# Altium footprint library ControlBoard.PcbLib: 18 footprints (part 2 of 2)
Each footprint in its own frame and in the unit in brackets; x right, y up, seen from the top. Pads: shape width x height; smd on the part's side, far side on the other; paste and mask are expansions set on the pad; w line width, h text height; cw(c..) or ccw(c..) is an arc to the next point about the centre after c.
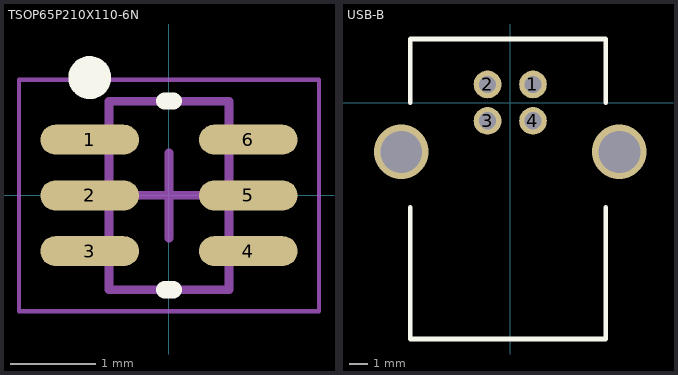
[diagram p1: the footprints below, top view; thin cyan lines are the x and y axes]

## TSOP65P210X110-6N [mm] "TSOP, 6-Leads, Body 2.00x1.25mm, Pitch 0.65mm, IPC Medium Density"
height 1.1
pads (6):
  oval 1.15x0.35 smd: 1(-0.925,0.65) 2(-0.925,0) 3(-0.925,-0.65) 4(0.925,-0.65) 5(0.925,0) 6(0.925,0.65)
Top Overlay:
  circle w0.25: c-0.925,1.375 r0.125
  lines w0.2: -0.05,-1.1 0.05,-1.1 ; -0.05,1.1 0.05,1.1
Mechanical 13:
  lines w0.1: -0.7,-1.1 -0.7,1.1 0.7,1.1 0.7,-1.1 -0.7,-1.1
Mechanical 15:
  lines w0.05: -1.75,-1.35 -1.75,1.35 1.75,1.35 1.75,-1.35 -1.75,-1.35
  lines w0.1: -0.5,0 0.5,0 ; 0,-0.5 0,0.5
3D body: height 1.1, standoff 0.1, extent -0.7,-1.1 0.7,1.1

## USB-B [mm] "2411 02"
pads (4):
  round 1.524 hole 0.95: 1(1.25,1) 2(-1.25,1) 3(-1.25,-1) 4(1.25,-1)
via -6,-2.71 diameter 3 hole 2.3
via 6,-2.71 diameter 3 hole 2.3
Top Overlay:
  lines w0.254: -5.5,-5.75 -5.5,-13 5.25,-13 5.25,-5.75 ; -5.5,0 -5.5,3.5 5.25,3.5 5.25,0